# EAGLE library part 615024143921 (library WR-MJ)
WR-MJ Cat 3 Modular Jacks – THT Characteristics Shieldingless and Shielded with EMI-Spring option Optional LEDs in various sequences Vertical and Horizontal orientation Stacked and assembled configurations Tray Packaging Properties PoE++ Compatible up to 100W (IEEE 802.3bt) UL and cULus-Certified UL94-V0 insulator material Ethernet Category 3 – Category 5 under conditions Applications Networks Internet of Things mart Buildings <https://www.we-online.com/components/media/o863419v209%20multi-WR-MJTH-615002138421.jpg> Details see: www.we-online.com/en/components/products/WR_MJ_MODULAR_JACKS_THT <www.we-online.com/catalog/WR_MJ_MODULAR_JACKS_THT/?utm_source=eagle_model&utm_medium=description_link&utm_campaign=eisos_eagle> Updated by Yingchun Shan 2020-01-06 2020(C) Würth Elektronik
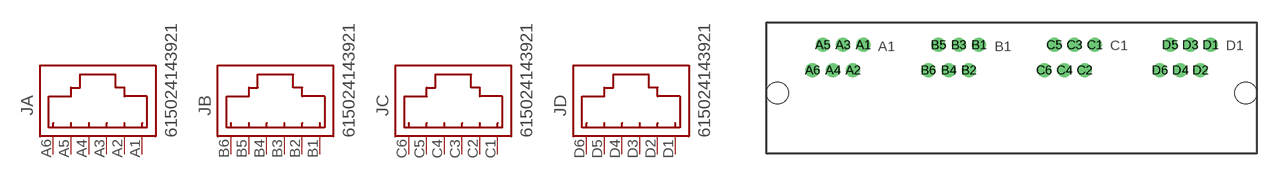
[diagram p21: symbol with the pads of 615024143921; footprint 615024143921]

Designator prefix J; gates A=6P6C B=6P6C C=6P6C D=6P6C

## 615024143921 (APPLICATION-SYSTEM: CAT 3; DATASHEET-URL: https://www.we-online.com/redexpert/spec/615024143921?ae; EMI: No; LED: /; MOUNT: THT; PART-NUMBER: 615024143921; SIZE: Horizontal; TAB: Up; VALUE: 615024143921; XPXC: 6P6C)  [615024143921]
A1  A:1  pas
A2  A:2  pas
A3  A:3  pas
A4  A:4  pas
A5  A:5  pas
A6  A:6  pas
B1  B:1  pas
B2  B:2  pas
B3  B:3  pas
B4  B:4  pas
B5  B:5  pas
B6  B:6  pas
C1  C:1  pas
C2  C:2  pas
C3  C:3  pas
C4  C:4  pas
C5  C:5  pas
C6  C:6  pas
D1  D:1  pas
D2  D:2  pas
D3  D:3  pas
D4  D:4  pas
D5  D:5  pas
D6  D:6  pas

## Footprint 615024143921 (pad centres in mm)
WR-MJ Horizontal Plastic 4 Port 6P6C Modular Jack Tab Up, 24 pins
drill 0.9: A1 -14.925,4.34; A2 -15.945,1.8; A3 -16.965,4.34; A4 -17.985,1.8; A5 -19.005,4.34; A6 -20.025,1.8; B1 -3.275,4.34; B2 -4.295,1.8; B3 -5.315,4.34; B4 -6.335,1.8; B5 -7.355,4.34; B6 -8.375,1.8; C1 8.375,4.34; C2 7.355,1.8; C3 6.335,4.34; C4 5.315,1.8; C5 4.295,4.34; C6 3.275,1.8; D1 20.025,4.34; D2 19.005,1.8; D3 17.985,4.34; D4 16.965,1.8; D5 15.945,4.34; D6 14.925,1.8
hole 2.2 at -23.55,-0.5
hole 2.2 at 23.55,-0.5